# Altium footprint library hsbest.PcbLib: 389 footprints (part 13 of 25)
Each footprint in its own frame and in the unit in brackets; x right, y up, seen from the top. Pads: shape width x height; smd on the part's side, far side on the other; paste and mask are expansions set on the pad; w line width, h text height; cw(c..) or ccw(c..) is an arc to the next point about the centre after c.
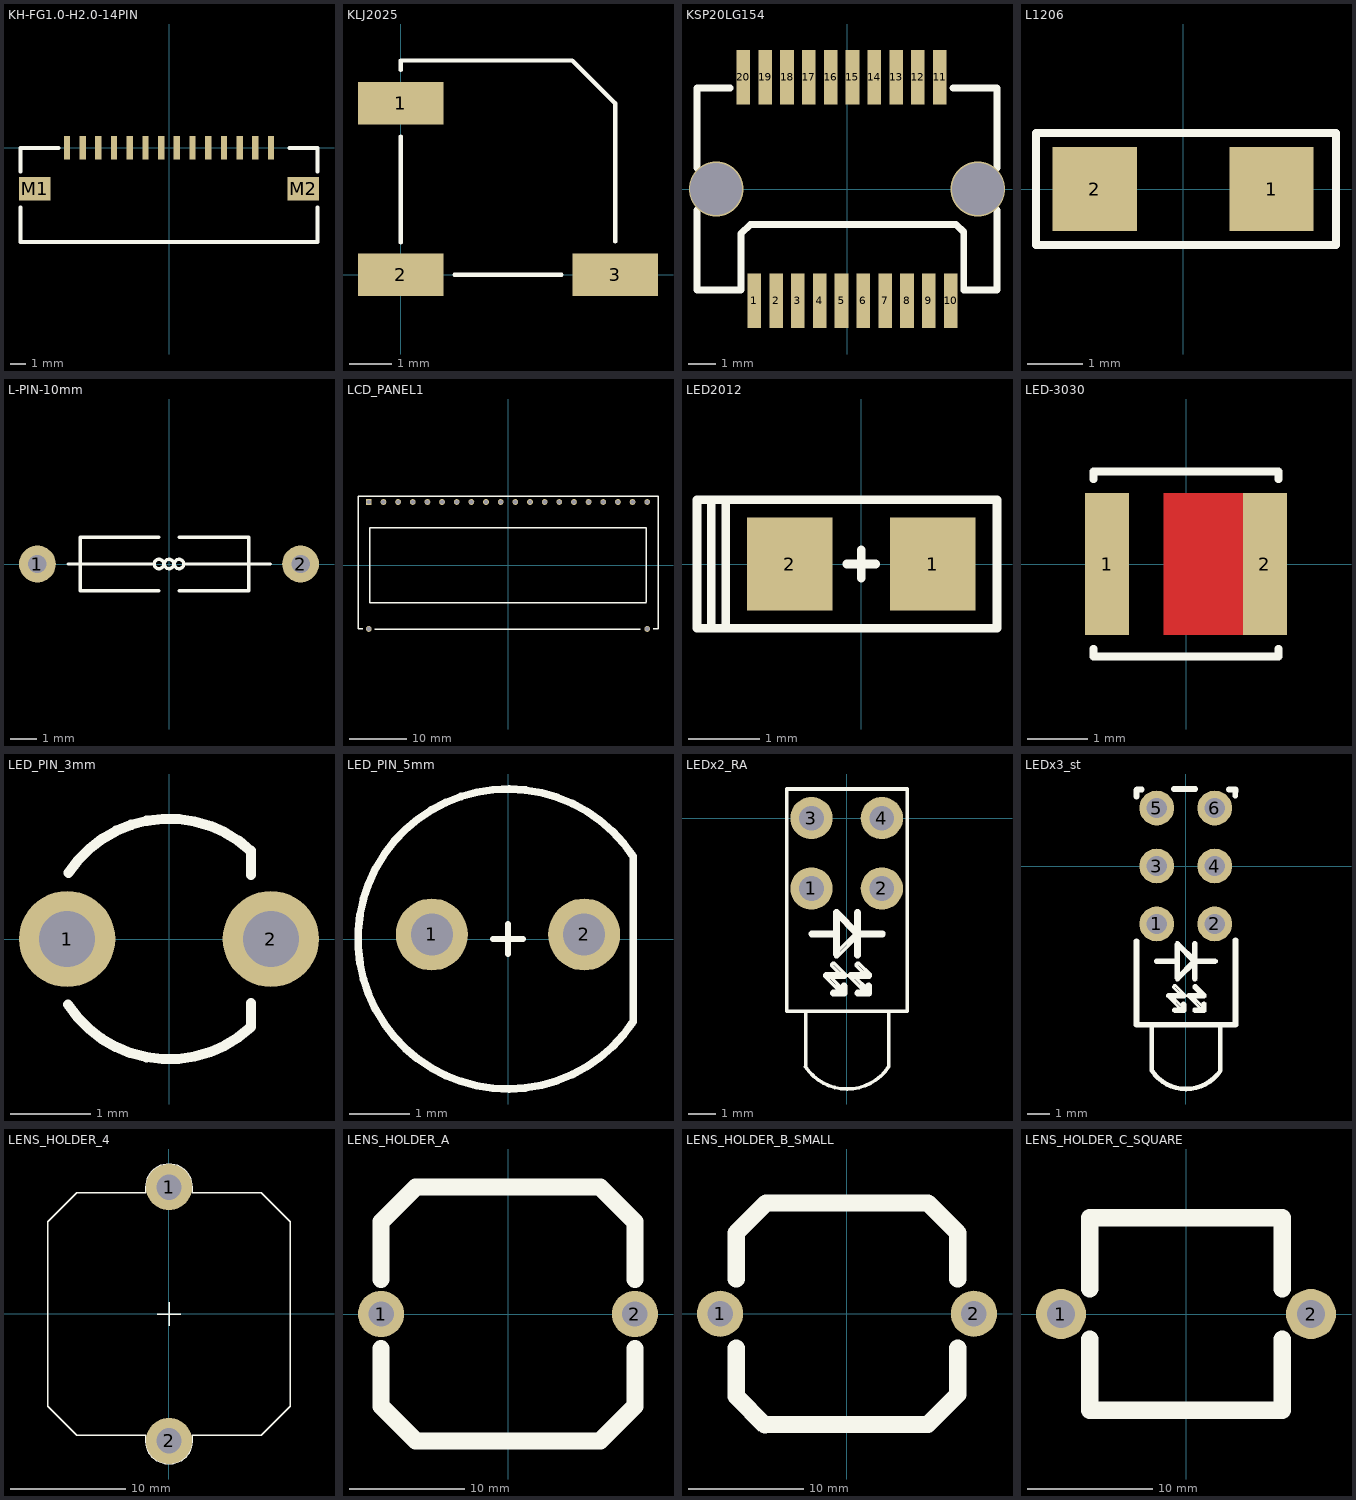
[diagram p12: the footprints below, top view; thin cyan lines are the x and y axes]

## KH-FG1.0-H2.0-14PIN [mm]
pads (16):
  rect 0.4x1.5 smd: 1(-6.5,0) 2(-5.5,0) 3(-4.5,0) 4(-3.5,0) 5(-2.5,0) 6(-1.5,0) 7(-0.5,0) 8(0.5,0) 9(1.5,0) 10(2.5,0) 11(3.5,0) 12(4.5,0) 13(5.5,0) 14(6.5,0)
  rect 2x1.5 smd: M1(-8.55,-2.6) M2(8.55,-2.6)
Top Overlay:
  lines w0.254: -9.45,-3.8 -9.45,-6 9.45,-6 9.45,-3.8 ; -9.45,-1.5 -9.45,0 -7.025,0 ; 7.675,0 9.45,0 9.45,-1.5

## KLJ2025 [mm]
pads (3):
  rect 2x1 smd: 1(0,4) 2(0,0) 3(5,0)
Top Overlay:
  lines w0.1: 0,0.75 0,3.225 ; 0,4.775 0,5 4,5 5,4 5,0.775 ; 1.25,0 3.75,0

## KSP20LG154 [mm]
pads (20):
  rect 0.5x2 smd paste+0 mask+0.051: 1(-3.4,-4.1) 2(-2.6,-4.1) 3(-1.8,-4.1) 4(-1,-4.1) 5(-0.2,-4.1) 6(0.6,-4.1) 7(1.4,-4.1) 8(2.2,-4.1) 9(3,-4.1) 10(3.8,-4.1) 11(3.4,4.1) 12(2.6,4.1) 13(1.8,4.1) 14(1,4.1) 15(0.2,4.1) 16(-0.6,4.1) 17(-1.4,4.1) 18(-2.2,4.1) 19(-3,4.1) 20(-3.8,4.1)
via -4.8,0 diameter 2 hole 1.9
via 4.8,0 diameter 2 hole 1.9
Top Overlay:
  lines w0.254: -5.499,-0.772 -5.499,-3.701 -3.881,-3.701 -3.881,-1.633 -3.546,-1.3 0.302,-1.3 4,-1.3 4.28,-1.58 4.28,-3.701 5.499,-3.701 5.499,-0.772 ; -5.499,0.772 -5.499,3.701 -4.28,3.701 ; 3.881,3.701 5.4,3.701 5.499,3.701 5.499,0.772

## L1206 [mil]
pads (2):
  rect 60x60 smd: 1(63,0) 2(-63,0)
Top Overlay:
  lines w6: -104.86,-39.91 108.96,-39.91 108.96,39.92 -104.86,39.92 -104.86,-39.91

## L-PIN-10mm [mm]
pads (2):
  round 1.4 hole 0.7 unplated: 1(-5,0) 2(5,0)
Top Overlay:
  circle w0.125: c-0.381,0 r0.18
  circle w0.125: c0,0 r0.18
  circle w0.125: c0.381,0 r0.18
  lines w0.125: -3.825,0 -0.635,0 ; -0.381,-1.016 -3.375,-1.016 -3.375,1.016 -0.381,1.016 ; 0.381,-1.016 3.025,-1.016 3.025,1.016 0.381,1.016 ; 0.635,0 3.85,0

## LCD_PANEL1 [mm]
pads (22):
  rect 1x1 hole 0.762: 1(-24.13,11)
  round 1 hole 0.762: 2(-21.59,11) 3(-19.05,11) 4(-16.51,11) 5(-13.97,11) 6(-11.43,11) 7(-8.89,11) 8(-6.35,11) 9(-3.81,11) 10(-1.27,11) 11(1.27,11) 12(3.81,11) 13(6.35,11) 14(8.89,11) 15(11.43,11) 16(13.97,11) 17(16.51,11) 18(19.05,11) 19(21.59,11) 20(24.13,11) M1(-24.13,-11) M2(24.13,-11)
Top Overlay:
  lines w0.254: -25.175,-11 -26,-11 -26,12 26,12 26,-11 25.15,-11 ; -23.1,-11.025 22.95,-11.025 ; 24,-6.5 -24,-6.5 -24,6.5 24,6.5 24,-6.4

## LED2012 [mil]
pads (2):
  rect 47x51 smd: 1(39.37,0) 2(-39.37,0)
Top Overlay:
  lines w4.72: -7.87,0 7.87,0 ; 0,-7.87 0,7.87 ; -82.68,-35.43 -74.8,-35.43 ; -82.68,-35.43 -82.68,35.43 ; -82.68,-35.43 -90.55,-35.43 -90.55,35.43 -82.68,35.43 ; -82.68,35.43 -74.8,35.43 ; -74.8,-35.43 -74.8,35.43 ; -74.8,-35.43 74.8,-35.43 74.8,35.43 -74.8,35.43

## LED-3030 [mm]
pads (2):
  rect 0.725x2.35 smd: 1(-1.3,0) 2(1.3,0)
Top Layer:
  rectangle: -0.375,-1.175 1.55,1.175
Top Overlay:
  lines w0.127: -1.525,-1.4 -1.525,-1.525 1.525,-1.525 1.525,-1.4 ; -1.525,1.4 -1.525,1.525 1.525,1.525 1.525,1.4
Top Solder:
  rectangle: -0.475,-1.275 0.925,1.275

## LED_PIN_3mm [mm]
pads (2):
  round 1.2 hole 0.7: 1(-1.27,0) 2(1.27,0)
Top Overlay:
  lines w0.127: -1.363,-0.086 -1.401,-0.048 -1.401,0 -1.363,0.038 -1.34,0.038 ; -1.258,-0.817 ccw(c0,0) 1.023,-1.097 1.023,-0.8 ; -1.252,0.826 cw(c0,0) 1.021,1.099 ; 1.023,0.8 1.023,1.1

## LED_PIN_5mm [mm]
pads (2):
  round 1.2 hole 0.7: 1(-1.27,0.075) 2(1.27,0.075)
Top Overlay:
  lines w0.1: -0.25,0 0.25,0 ; 0,-0.25 0,0.25
  lines w0.127: 2.087,1.376 2.087,-1.377 cw(c0,0) 2.088,1.376

## LEDx2_RA [mil]
pads (4):
  round 60 hole 35: 1(-50,-100) 2(50,-100) 3(-50,0) 4(50,0)
Top Overlay:
  drawing of 163 lines, arcs and shapes, not listed

## LEDx3_st [mil]
pads (6):
  round 60 hole 35: 1(-50,-100) 2(50,-100) 3(-50,0) 4(50,0) 5(-50,100) 6(50,100)
Top Overlay:
  drawing of 164 lines, arcs and shapes, not listed

## LENS_HOLDER_4 [mm]
pads (2):
  round 4 / inner round 3.6 / far side round 4 hole 2.2: 1(0.003,10.996) 2(0.003,-11.004)
Top Overlay:
  lines w0.125: -0.997,-0.004 1.003,-0.004 ; 0.003,-1.004 0.003,0.996 ; -10.497,-8.004 -7.997,-10.504 -1.997,-10.504 -1.997,-10.574 -2.007,-10.837 ccw(c0.003,-10.988) 2.013,-10.837 2.003,-10.574 2.003,-10.504 8.003,-10.504 10.503,-8.004 10.503,7.996 8.003,10.496 2.003,10.496 2.003,10.996 ccw(c0.003,10.996) -1.997,10.996 -1.997,10.496 -7.997,10.496 -10.497,7.996 -10.497,-8.004
Multi-Layer:
  lines w1.5: -3.997,-10.504 -7.997,-10.504 -10.497,-8.004 -10.497,7.996 -7.997,10.496 -3.997,10.496 ; 4.003,-10.504 8.003,-10.504 10.503,-8.004 10.503,7.996 8.003,10.496 4.003,10.496

## LENS_HOLDER_A [mm]
pads (2):
  round 4 / inner round 3.6 / far side round 4.4 hole 2.2: 1(-11,0) 2(11,0)
Top Overlay:
  lines w1.5: -11,-3 -11,-8 -8,-11 8,-11 11,-8 11,-3 ; -11,3 -11,8 -8,11 8,11 11,8 11,3

## LENS_HOLDER_B_SMALL [mm]
pads (2):
  round 4 / inner round 3.6 / far side round 4.4 hole 2.2: 1(-11,0) 2(11,0)
Top Overlay:
  lines w1.5: -9.6,-3 -9.6,-7.164 -7.112,-9.652 ; -9.6,3 -9.6,7 -7,9.6 7,9.6 9.6,7 9.6,3 ; -7,-9.6 7,-9.6 9.6,-7 9.6,-3

## LENS_HOLDER_C_SQUARE [mm]
pads (2):
  round 4 / inner round 3.6 / far side round 4.4 hole 2.2: 1(-10,0) 2(10,0)
Top Overlay:
  lines w1.4: -7.7,-2 -7.7,-7.7 7.7,-7.7 7.7,-2 ; -7.7,2 -7.7,7.7 7.7,7.7 7.7,2